# Altium footprint library 2.90-TI标准封装.PcbLib: 35 footprints (part 3 of 3)
Each footprint in its own frame and in the unit in brackets; x right, y up, seen from the top. Pads: shape width x height; smd on the part's side, far side on the other; paste and mask are expansions set on the pad; w line width, h text height; cw(c..) or ccw(c..) is an arc to the next point about the centre after c.
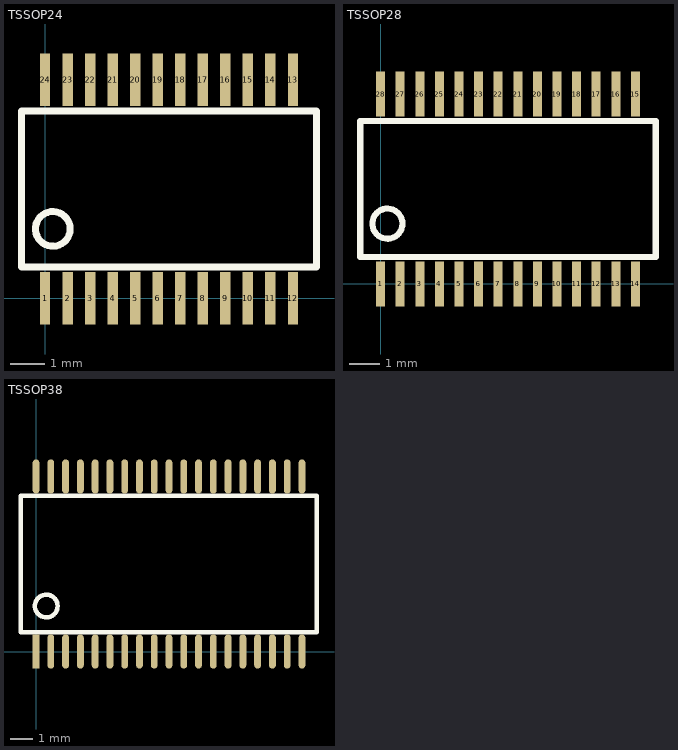
[diagram p2: the footprints below, top view; thin cyan lines are the x and y axes]

## TSSOP24 [mm] "[ PCBѧϰȺ514746572 ]"
pads (24):
  rect 0.3x1.5 smd: 1(0,0) 2(0.65,0) 3(1.3,0) 4(1.95,0) 5(2.6,0) 6(3.25,0) 7(3.9,0) 8(4.55,0) 9(5.2,0) 10(5.85,0) 11(6.5,0) 12(7.15,0) 13(7.15,6.3) 14(6.5,6.3) 15(5.85,6.3) 16(5.2,6.3) 17(4.55,6.3) 18(3.9,6.3) 19(3.25,6.3) 20(2.6,6.3) 21(1.95,6.3) 22(1.3,6.3) 23(0.65,6.3) 24(0,6.3)
Top Overlay:
  circle w0.2: c0.225,2 r0.5
  lines w0.2: -0.675,0.9 7.825,0.9 7.825,5.4 -0.675,5.4 -0.675,0.9

## TSSOP28 [mm] "[ PCBѧϰȺ514746572 ]"
pads (28):
  rect 0.3x1.5 smd: 1(0,0) 2(0.65,0) 3(1.3,0) 4(1.95,0) 5(2.6,0) 6(3.25,0) 7(3.9,0) 8(4.55,0) 9(5.2,0) 10(5.85,0) 11(6.5,0) 12(7.15,0) 13(7.8,0) 14(8.45,0) 15(8.45,6.3) 16(7.8,6.3) 17(7.15,6.3) 18(6.5,6.3) 19(5.85,6.3) 20(5.2,6.3) 21(4.55,6.3) 22(3.9,6.3) 23(3.25,6.3) 24(2.6,6.3) 25(1.95,6.3) 26(1.3,6.3) 27(0.65,6.3) 28(0,6.3)
Top Overlay:
  circle w0.2: c0.225,2 r0.5
  lines w0.2: -0.675,0.9 -0.675,5.4 9.125,5.4 9.125,0.9 -0.675,0.9

## TSSOP38 [mm] "[ PCBѧϰȺ514746572 ]"
pads (38):
  rect 0.3x1.5 smd: 1(0,0)
  oval 0.3x1.5 smd: 2(0.65,0) 3(1.3,0) 4(1.95,0) 5(2.6,0) 6(3.25,0) 7(3.9,0) 8(4.55,0) 9(5.2,0) 10(5.85,0) 11(6.5,0) 12(7.15,0) 13(7.8,0) 14(8.45,0) 15(9.1,0) 16(9.75,0) 17(10.4,0) 18(11.05,0) 19(11.7,0) 20(11.7,7.7) 21(11.05,7.7) 22(10.4,7.7) 23(9.75,7.7) 24(9.1,7.7) 25(8.45,7.7) 26(7.8,7.7) 27(7.15,7.7) 28(6.5,7.7) 29(5.85,7.7) 30(5.2,7.7) 31(4.55,7.7) 32(3.9,7.7) 33(3.25,7.7) 34(2.6,7.7) 35(1.95,7.7) 36(1.3,7.7) 37(0.65,7.7) 38(0,7.7)
Top Overlay:
  circle w0.2: c0.45,2 r0.5
  lines w0.2: -0.675,0.85 -0.675,6.85 12.35,6.85 12.35,0.85 -0.675,0.85